# EAGLE library part MC100EP56DWG (library ON Semiconductor_By_element14_Batch_1)
3.3V / 5V ECL Dual Differential 2:1 Multiplexer
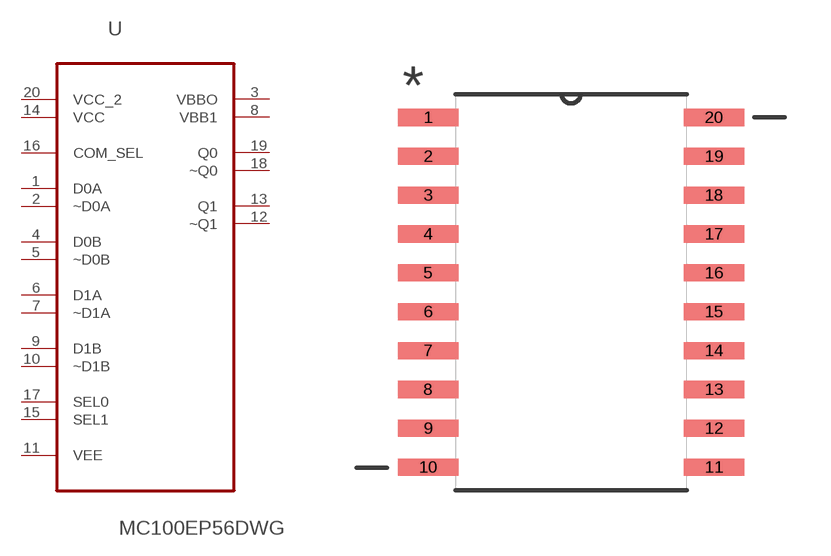
[diagram p125: symbol with the pads of SOIC127P1030X265-20N; footprint SOIC127P1030X265-20N]

Designator prefix U

## MC100EP56DWG (MPN: MC100EP56DWG; OC_FARNELL: 1607688; OC_NEWARK: 26K3870; PACKAGE: SOIC-20; SUPPLIER: ON SEMICONDUCTOR)  [SOIC127P1030X265-20N]
1  D0A  in
2  ~D0A  in
3  VBBO  out
4  D0B  in
5  ~D0B  in
6  D1A  in
7  ~D1A  in
8  VBB1  out
9  D1B  in
10  ~D1B  in
11  VEE  pwr
12  ~Q1  out
13  Q1  out
14  VCC  pwr
15  SEL1  in
16  COM_SEL  in
17  SEL0  in
18  ~Q0  out
19  Q0  out
20  VCC_2  pwr

## Footprint SOIC127P1030X265-20N (pad centres in mm)
smd 1.981 x 0.559: 1 -4.674,5.715; 2 -4.674,4.445; 3 -4.674,3.175; 4 -4.674,1.905; 5 -4.674,0.635; 6 -4.674,-0.635; 7 -4.674,-1.905; 8 -4.674,-3.175; 9 -4.674,-4.445; 10 -4.674,-5.715; 11 4.674,-5.715; 12 4.674,-4.445; 13 4.674,-3.175; 14 4.674,-1.905; 15 4.674,-0.635; 16 4.674,0.635; 17 4.674,1.905; 18 4.674,3.175; 19 4.674,4.445; 20 4.674,5.715